# Altium schematic symbol library INA118.SchLib: 1 symbol
Pins are listed as number, name and electrical type; pins without a type are passive.

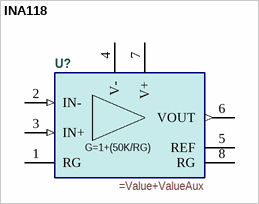
[diagram p0: symbol INA118]

## INA118
designator U?
=Description
pins: 1 RG, 2 IN- (in), 3 IN+ (in), 4 V- (power), 5 REF, 6 VOUT (out), 7 V+ (power), 8 RG
text: G=1+(50K/RG)